# Altium footprint library TH Switches.PcbLib: 37 footprints (part 3 of 3)
Each footprint in its own frame and in the unit in brackets; x right, y up, seen from the top. Pads: shape width x height; smd on the part's side, far side on the other; paste and mask are expansions set on the pad; w line width, h text height; cw(c..) or ccw(c..) is an arc to the next point about the centre after c.
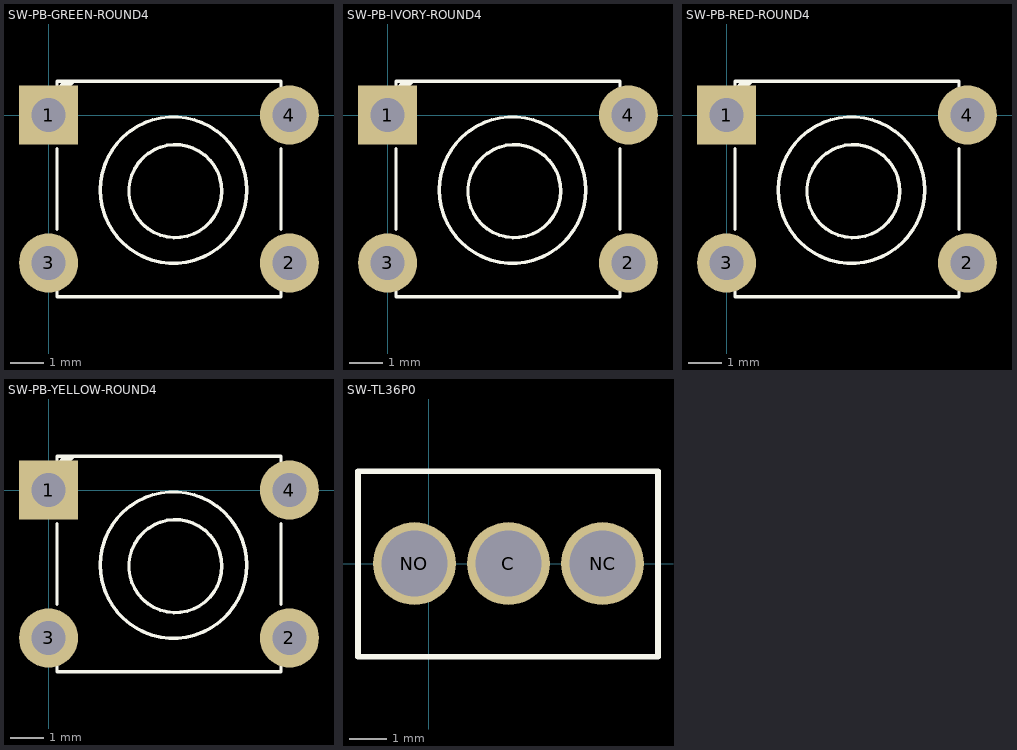
[diagram p2: the footprints below, top view; thin cyan lines are the x and y axes]

## SW-PB-GREEN-ROUND4 [mil]
pads (4):
  rect 70x70 hole 40: 1(0,0)
  round 70 hole 40: 2(285,-175) 3(0,-175) 4(285,0)
Top Overlay:
  circle w4: c150,-90 r55
  circle w4: c147.79,-88.74 r86.61
  lines w4: 10,-195 10,-215 275,-215 275,-195 ; 10,-135 10,-40 ; 275,-135 275,-40 ; 275,20 275,40 10,40 ; 10,20 10,25 25,40 ; 10,20 10,30 ; 10,20 30,40 ; 10,20 10,30 ; 10,20 10,40 ; 10,30 20,40 ; 10,40 30,40 ; 10,40 20,40 ; 20,40 25,40 ; 25,40 30,40 ; 25,40 30,40
3D body: height 138, standoff 0, extent 15,-215.5 270,39.5
3D body: height 145, standoff 138, extent 15,-215 270,40
3D body: height 160, standoff 140, extent 202.16,-194.96 242,-155.04
3D body: height 180, standoff 140, extent 67,-168.84 226.37,-9.16
3D body: height 287, standoff 0, extent 115,-125 185,-55
3D body: height 160, standoff 140, extent 43,-194.96 82.84,-155.04
3D body: height 160, standoff 140, extent 43,-19.96 82.84,19.96
3D body: height 160, standoff 140, extent 202.16,-19.96 242,19.96
3D body: height 80, standoff -100, extent -6,-191 6,-158
3D body: height 80, standoff -100, extent -6,-16 6,17
3D body: height 80, standoff -100, extent 279,-16 291,17
3D body: height 80, standoff -100, extent 279,-191 291,-158
3D body: height 80, standoff 60, extent 265,-191 279,-158
3D body: height 80, standoff 60, extent 265,-16 279,17
3D body: height 80, standoff 60, extent 6,-16 20,17
3D body: height 80, standoff 60, extent 6,-191 20,-158
3D body: height 417, standoff 200, extent 58,-178 237.29,1.64

## SW-PB-IVORY-ROUND4 [mil]
pads (4):
  rect 70x70 hole 40: 1(0,0)
  round 70 hole 40: 2(285,-175) 3(0,-175) 4(285,0)
Top Overlay:
  circle w4: c147.79,-88.74 r86.61
  circle w4: c150,-90 r55
  lines w4: 10,-195 10,-215 275,-215 275,-195 ; 10,-135 10,-40 ; 275,-135 275,-40 ; 275,20 275,40 10,40 ; 10,20 10,40 ; 10,20 10,30 ; 10,20 30,40 ; 10,20 10,30 ; 10,20 10,25 25,40 ; 10,30 20,40 ; 10,40 20,40 ; 10,40 30,40 ; 20,40 25,40 ; 25,40 30,40 ; 25,40 30,40
3D body: height 417, standoff 200, extent 58,-178 237.29,1.64
3D body: height 80, standoff 60, extent 6,-191 20,-158
3D body: height 80, standoff 60, extent 6,-16 20,17
3D body: height 80, standoff 60, extent 265,-16 279,17
3D body: height 80, standoff 60, extent 265,-191 279,-158
3D body: height 80, standoff -100, extent 279,-191 291,-158
3D body: height 80, standoff -100, extent 279,-16 291,17
3D body: height 80, standoff -100, extent -6,-16 6,17
3D body: height 80, standoff -100, extent -6,-191 6,-158
3D body: height 160, standoff 140, extent 202.16,-19.96 242,19.96
3D body: height 160, standoff 140, extent 43,-19.96 82.84,19.96
3D body: height 160, standoff 140, extent 43,-194.96 82.84,-155.04
3D body: height 287, standoff 0, extent 115,-125 185,-55
3D body: height 180, standoff 140, extent 67,-168.84 226.37,-9.16
3D body: height 160, standoff 140, extent 202.16,-194.96 242,-155.04
3D body: height 145, standoff 138, extent 15,-215 270,40
3D body: height 138, standoff 0, extent 15,-215.5 270,39.5

## SW-PB-RED-ROUND4 [mil]
pads (4):
  rect 70x70 hole 40: 1(0,0)
  round 70 hole 40: 2(285,-175) 3(0,-175) 4(285,0)
Top Overlay:
  circle w4: c147.79,-88.74 r86.61
  circle w4: c150,-90 r55
  lines w4: 10,-195 10,-215 275,-215 275,-195 ; 10,-135 10,-40 ; 275,-135 275,-40 ; 275,20 275,40 10,40 ; 10,20 10,40 ; 10,20 10,30 ; 10,20 30,40 ; 10,20 10,30 ; 10,20 10,25 25,40 ; 10,30 20,40 ; 10,40 20,40 ; 10,40 30,40 ; 20,40 25,40 ; 25,40 30,40 ; 25,40 30,40
3D body: height 417, standoff 200, extent 58,-178 237.29,1.64
3D body: height 80, standoff 60, extent 6,-191 20,-158
3D body: height 80, standoff 60, extent 6,-16 20,17
3D body: height 80, standoff 60, extent 265,-16 279,17
3D body: height 80, standoff 60, extent 265,-191 279,-158
3D body: height 80, standoff -100, extent 279,-191 291,-158
3D body: height 80, standoff -100, extent 279,-16 291,17
3D body: height 80, standoff -100, extent -6,-16 6,17
3D body: height 80, standoff -100, extent -6,-191 6,-158
3D body: height 160, standoff 140, extent 202.16,-19.96 242,19.96
3D body: height 160, standoff 140, extent 43,-19.96 82.84,19.96
3D body: height 160, standoff 140, extent 43,-194.96 82.84,-155.04
3D body: height 287, standoff 0, extent 115,-125 185,-55
3D body: height 180, standoff 140, extent 67,-168.84 226.37,-9.16
3D body: height 160, standoff 140, extent 202.16,-194.96 242,-155.04
3D body: height 145, standoff 138, extent 15,-215 270,40
3D body: height 138, standoff 0, extent 15,-215.5 270,39.5

## SW-PB-YELLOW-ROUND4 [mil]
pads (4):
  rect 70x70 hole 40: 1(0,0)
  round 70 hole 40: 2(285,-175) 3(0,-175) 4(285,0)
Top Overlay:
  circle w4: c147.79,-88.74 r86.61
  circle w4: c150,-90 r55
  lines w4: 10,-195 10,-215 275,-215 275,-195 ; 10,-135 10,-40 ; 275,-135 275,-40 ; 275,20 275,40 10,40 ; 10,20 10,40 ; 10,20 10,30 ; 10,20 30,40 ; 10,20 10,30 ; 10,20 10,25 25,40 ; 10,30 20,40 ; 10,40 20,40 ; 10,40 30,40 ; 20,40 25,40 ; 25,40 30,40 ; 25,40 30,40
3D body: height 417, standoff 200, extent 58,-178 237.29,1.64
3D body: height 80, standoff 60, extent 6,-191 20,-158
3D body: height 80, standoff 60, extent 6,-16 20,17
3D body: height 80, standoff 60, extent 265,-16 279,17
3D body: height 80, standoff 60, extent 265,-191 279,-158
3D body: height 80, standoff -100, extent 279,-191 291,-158
3D body: height 80, standoff -100, extent 279,-16 291,17
3D body: height 80, standoff -100, extent -6,-16 6,17
3D body: height 80, standoff -100, extent -6,-191 6,-158
3D body: height 160, standoff 140, extent 202.16,-19.96 242,19.96
3D body: height 160, standoff 140, extent 43,-19.96 82.84,19.96
3D body: height 160, standoff 140, extent 43,-194.96 82.84,-155.04
3D body: height 287, standoff 0, extent 115,-125 185,-55
3D body: height 180, standoff 140, extent 67,-168.84 226.37,-9.16
3D body: height 160, standoff 140, extent 202.16,-194.96 242,-155.04
3D body: height 145, standoff 138, extent 15,-215 270,40
3D body: height 138, standoff 0, extent 15,-215.5 270,39.5

## SW-TL36P0 [mil]
pads (3):
  round 88 hole 70: C(85,0) NC(185,0) NO(-15,0)
Top Overlay:
  lines w6: -75,-99 244,-99 244,98 -75,98 -75,-99